# EAGLE library part TLC5941PWP (library Z_GessIOMod)
16-CHANNEL LED DRIVER WITH DOT CORRECTION AND GRAYSCALE PWM CONTROL
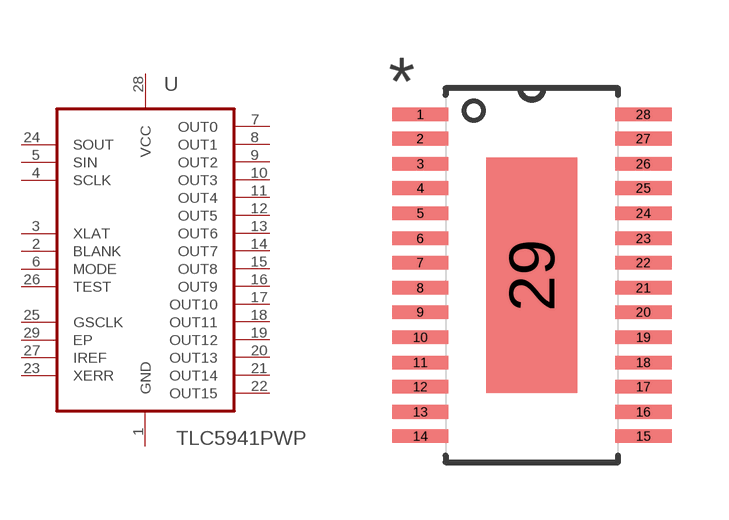
[diagram p4: symbol with the pads of SOP65P640X120-29N; footprint SOP65P640X120-29N]

Designator prefix U

## TLC5941PWP (MPN: TLC5941PWP; OC_FARNELL: 1226308; OC_NEWARK: 58K6744; PACKAGE: HTSSOP-28; SUPPLIER: Texas Instruments)  [SOP65P640X120-29N]
1  GND  pas
2  BLANK  in
3  XLAT  in
4  SCLK  in
5  SIN  in
6  MODE  in
7  OUT0  out
8  OUT1  out
9  OUT2  out
10  OUT3  out
11  OUT4  out
12  OUT5  out
13  OUT6  out
14  OUT7  out
15  OUT8  out
16  OUT9  out
17  OUT10  out
18  OUT11  out
19  OUT12  out
20  OUT13  out
21  OUT14  out
22  OUT15  out
23  XERR  out
24  SOUT  out
25  GSCLK  out
26  TEST  in
27  IREF  in
28  VCC  pwr
29  EP  pas

## Footprint SOP65P640X120-29N (pad centres in mm)
smd 1.473 x 0.356: 1 -2.921,4.216; 2 -2.921,3.581; 3 -2.921,2.921; 4 -2.921,2.286; 5 -2.921,1.626; 6 -2.921,0.965; 7 -2.921,0.33; 8 -2.921,-0.33; 9 -2.921,-0.965; 10 -2.921,-1.626; 11 -2.921,-2.286; 12 -2.921,-2.921; 13 -2.921,-3.581; 14 -2.921,-4.216; 15 2.921,-4.216; 16 2.921,-3.581; 17 2.921,-2.921; 18 2.921,-2.286; 19 2.921,-1.626; 20 2.921,-0.965; 21 2.921,-0.33; 22 2.921,0.33; 23 2.921,0.965; 24 2.921,1.626; 25 2.921,2.286; 26 2.921,2.921; 27 2.921,3.581; 28 2.921,4.216
smd 2.388 x 6.172: 29 0,0